# Altium schematic symbol library ADS1299IPAG.SchLib: 1 symbol
Pins are listed as number, name and electrical type; pins without a type are passive.

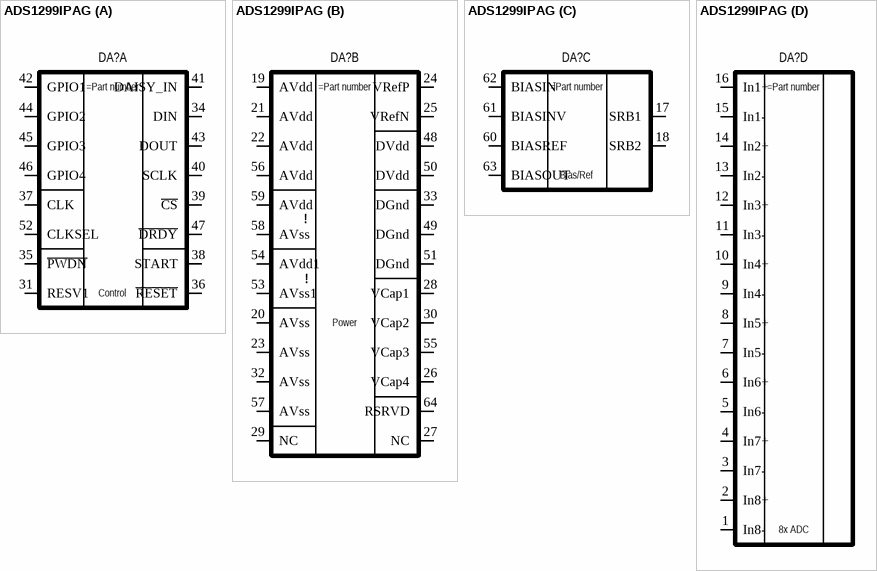
[diagram p0: symbol ADS1299IPAG]

## ADS1299IPAG
designator DA?
Low-Noise, 4-, 6-, 8-Channel, 24-Bit, Analog-to-Digital Converter for EEG and Biopotential Measurements
part A pins: 31 RESV1, 34 DIN, 35 ~{PWDN}, 36 ~{RESET}, 37 CLK, 38 START, 39 ~{CS}, 40 SCLK, 41 DAISY_IN, 42 GPIO1, 43 DOUT, 44 GPIO2, 45 GPIO3, 46 GPIO4, 47 ~{DRDY}, 52 CLKSEL
part B pins: 19 AVdd, 20 AVss, 21 AVdd, 22 AVdd, 23 AVss, 24 VRefP, 25 VRefN, 26 VCap4, 27 NC, 28 VCap1, 29 NC, 30 VCap2, 32 AVss, 33 DGnd, 48 DVdd, 49 DGnd, 50 DVdd, 51 DGnd, 53 AVss1, 54 AVdd1, 55 VCap3, 56 AVdd, 57 AVss, 58 AVss, 59 AVdd, 64 RSRVD
part C pins: 17 SRB1, 18 SRB2, 60 BIASREF, 61 BIASINV, 62 BIASIN, 63 BIASOUT
part D pins: 1 In8-, 2 In8+, 3 In7-, 4 In7+, 5 In6-, 6 In6+, 7 In5-, 8 In5+, 9 In4-, 10 In4+, 11 In3-, 12 In3+, 13 In2-, 14 In2+, 15 In1-, 16 In1+
part A text: Control
part B text: !; Power
part C text: Bias/Ref
part D text: 8x ADC